# Altium schematic symbol library Schlib1.SchLib: 6 symbols
Pins are listed as number, name and electrical type; pins without a type are passive.

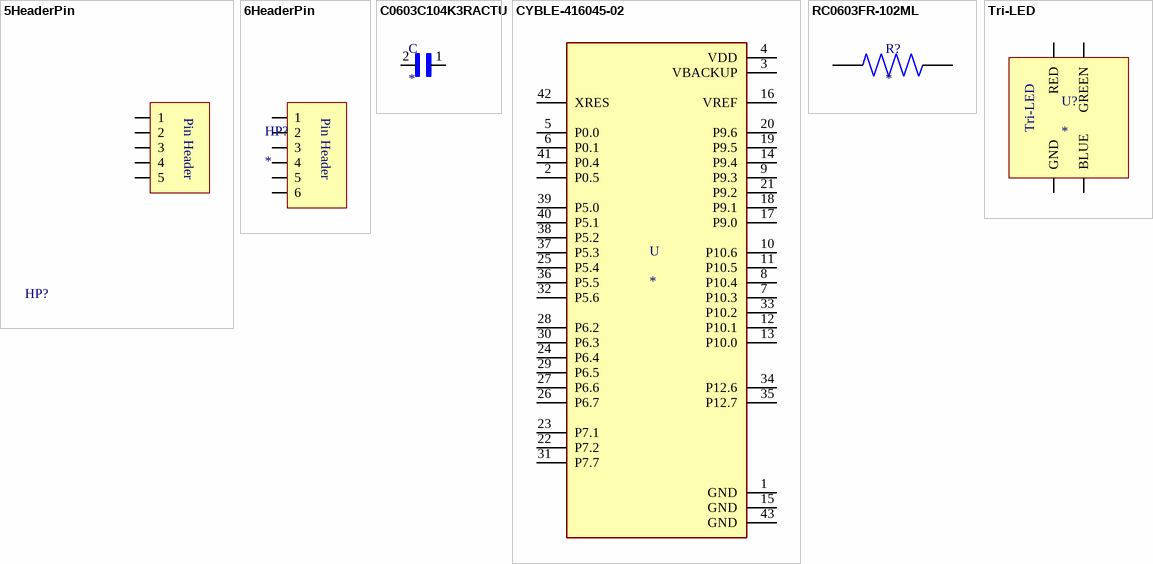
[diagram p0: symbols 5HeaderPin to Tri-LED]

## 5HeaderPin
designator HP?  (value not drawn)
footprint 5HeaderPin
pins: 1, 2, 3, 4, 5
text: Pin Header

## 6HeaderPin
designator HP?
footprint 6HeaderPin
pins: 1, 2, 3, 4, 5, 6
text: Pin Header

## C0603C104K3RACTU
designator C
0.1ÂµF Â±10% 25V Ceramic Capacitor X7R 0603 _1608 Metric_; MF: KEMET; MP: C0603C104K3RACTU; Digi-Key_Part_Number: 399-1281-1-ND; SnapEDA_Link: https://www.snapeda.com/parts/C0603C104K3RACTU/KEMET/view-part/78674/?ref=snap; Package: 0603 Kemet; Digi-Key_Purchase_URL: https://www.digikey.com/product-detail/en/kemet/C0603C104K3RACTU/399-1281-1-ND/416057?utm_source=snapeda&utm_medium=aggregator&utm_campaign=symbol; Value: *
footprint CAPC1608X90
pins: 1, 2

## CYBLE-416045-02
designator U
Bluetooth Bluetooth v5.0 Transceiver Module 2.4GHz ~ 2.5GHz Integrated, Trace Surface Mount; MP: CYBLE-416045-02; MF: Cypress Semiconductor; SnapEDA_Link: https://www.snapeda.com/parts/CYBLE-416045-02/Teledyne%20e2v/view-part/3593961/?ref=snap; Availability: Unavailable; Price: None; Value: *; Package: SMD-43 Cypress Semiconductor
footprint XCVR_CYBLE-416045-02
pins: 1 GND, 2 P0.5, 3 VBACKUP, 4 VDD, 5 P0.0, 6 P0.1, 7 P10.3, 8 P10.4, 9 P9.3, 10 P10.6, 11 P10.5, 12 P10.1, 13 P10.0, 14 P9.4, 15 GND, 16 VREF, 17 P9.0, 18 P9.1, 19 P9.5, 20 P9.6, 21 P9.2, 22 P7.2, 23 P7.1, 24 P6.4, 25 P5.4, 26 P6.7, 27 P6.6, 28 P6.2, 29 P6.5, 30 P6.3, 31 P7.7, 32 P5.6, 33 P10.2, 34 P12.6, 35 P12.7, 36 P5.5, 37 P5.3, 38 P5.2, 39 P5.0, 40 P5.1, 41 P0.4, 42 XRES, 43 GND

## RC0603FR-102ML
designator R?
MP: RC0603FR-102ML; Package: None; Price: None; Value: *; Availability: Unavailable
footprint RESC1608X55N
pins: 1, 2

## Tri-LED
designator U?
footprint Tri-LED
pins: BLUE, GND, GREEN, RED